# Altium schematic symbol library Schlib1.SchLib: 114 symbols
Pins are listed as number, name and electrical type; pins without a type are passive.

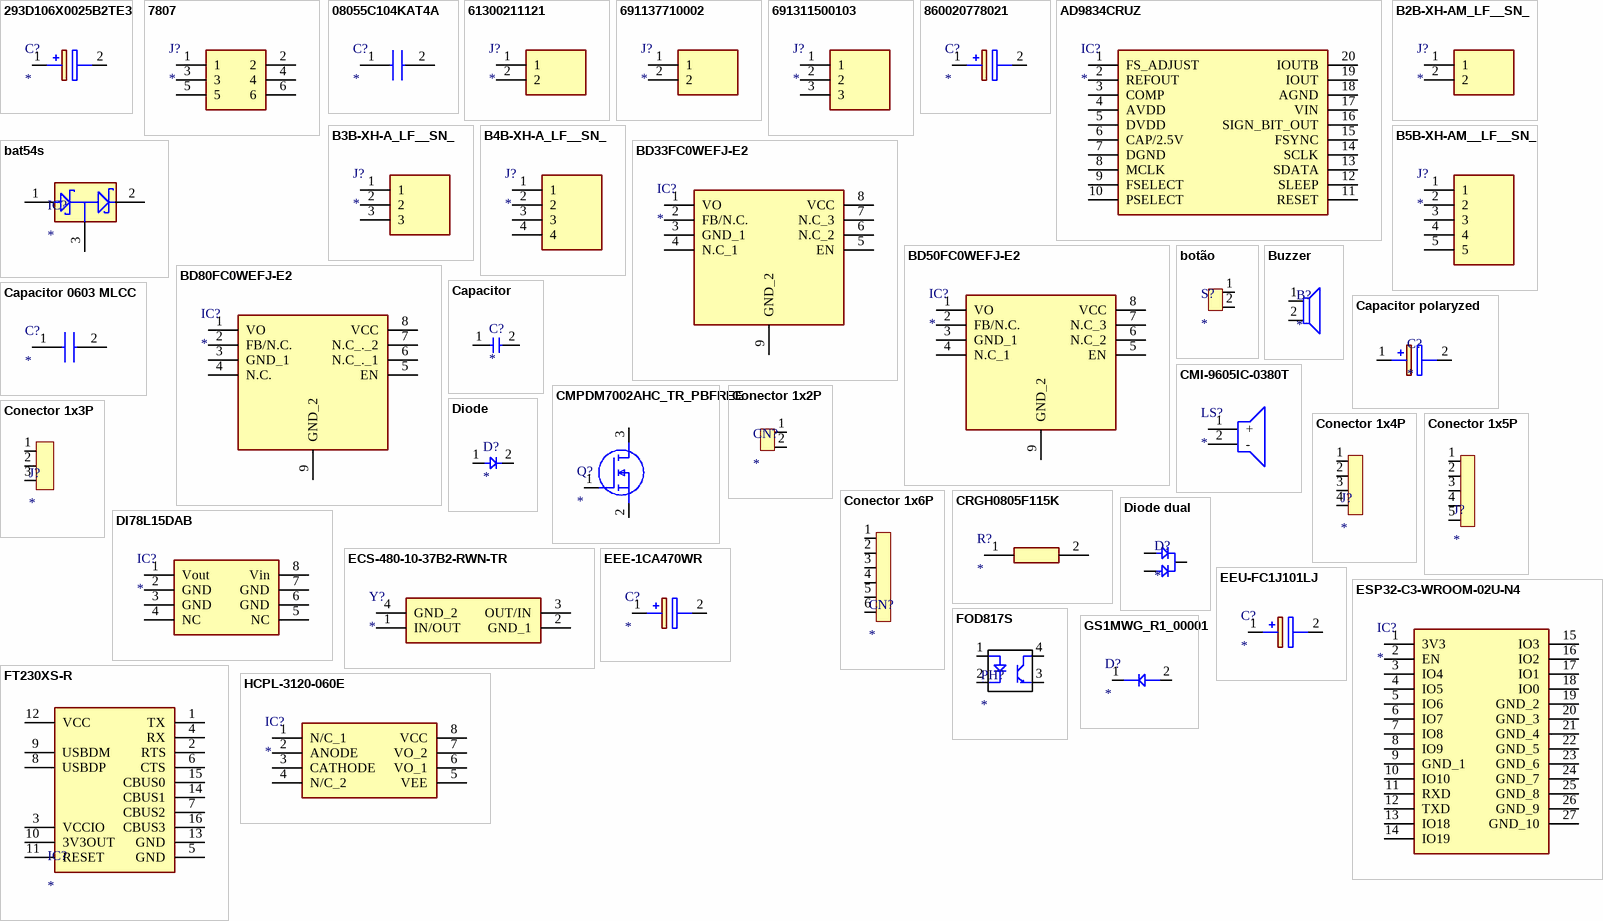
[diagram p0: symbols 293D106X0025B2TE3 to HCPL-3120-060E]

## 293D106X0025B2TE3
designator C?
Capacitor Polarised; Manufacturer_Name: Vishay; Manufacturer_Part_Number: 293D106X0025B2TE3; Datasheet Link: http://www.vishay.com/docs/40002/293d.pdf; Height: 2.1mm; Mouser Part Number: 74-293D106X0025B2TE3; Mouser Price/Stock: https://www.mouser.co.uk/ProductDetail/Vishay-Sprague/293D106X0025B2TE3?qs=eXAnOQRjAvn8wr9AJig%2FdQ%3D%3D
footprint CAPPM3528X210N
pins: 1 +, 2 -

## 7807
designator J?
Connector; Manufacturer_Name: Keystone Electronics; Manufacturer_Part_Number: 7807; Datasheet Link: http://www.keyelco.com/product-pdf.cfm?p=1119; Height: 11.76mm; Mouser Part Number: 534-7807; Mouser Price/Stock: https://www.mouser.co.uk/ProductDetail/Keystone-Electronics/7807?qs=%2F%252BPMR94VuMaEJokheHBVWg%3D%3D; Arrow Part Number: 7807; Arrow Price/Stock: https://www.arrow.com/en/products/7807/keystone-electronics?region=europe
footprint 7807
pins: 1, 2, 3, 4, 5, 6

## 08055C104KAT4A
designator C?
Capacitor; Manufacturer_Name: AVX; Manufacturer_Part_Number: 08055C104KAT4A; Datasheet Link: https://datasheets.avx.com/X7RDielectric.pdf; Height: 0.94mm; Mouser Part Number: 581-08055C104KAT4A; Mouser Price/Stock: https://www.mouser.co.uk/ProductDetail/AVX/08055C104KAT4A?qs=2ujN4bDBNE8aFT7CFyBStg%3D%3D; Arrow Part Number: 08055C104KAT4A; Arrow Price/Stock: https://www.arrow.com/en/products/08055c104kat4a/avx
footprint CAPC2012X94N
pins: 1, 2

## 61300211121
designator J?
Connector; Manufacturer_Name: Wurth Elektronik; Manufacturer_Part_Number: 61300211121; Datasheet Link: https://componentsearchengine.com/Datasheets/2/61300211121.pdf; Height: 8.54mm; Mouser Part Number: 710-61300211121; Mouser Price/Stock: https://www.mouser.co.uk/ProductDetail/Wurth-Elektronik/61300211121?qs=t4813l51qx%252B1A5GYDQxPlw%3D%3D
footprint HDRV2W110P0X254_1X2_508X254X854P
pins: 1, 2

## 691137710002
designator J?
Connector; Manufacturer_Name: Wurth Elektronik; Manufacturer_Part_Number: 691137710002; Datasheet Link: https://katalog.we-online.com/em/datasheet/691137710002.pdf; Height: 11.6mm; Mouser Part Number: 710-691137710002; Mouser Price/Stock: https://www.mouser.co.uk/ProductDetail/Wurth-Elektronik/691137710002?qs=lBTPRtX1sU9LnHBbviNKGA%3D%3D
footprint SHDR2W70P0X500_1X2_1000X750X1160P
pins: 1, 2

## 691311500103
designator J?
Connector; Manufacturer_Name: Wurth Elektronik; Manufacturer_Part_Number: 691311500103; Datasheet Link: https://www.we-online.de/katalog/datasheet/6913115001xx.pdf; Height: 12mm; Mouser Part Number: 710-691311500103; Mouser Price/Stock: https://www.mouser.co.uk/ProductDetail/Wurth-Elektronik/691311500103?qs=2kOmHSv6VfTr95JPv5RlIw%3D%3D
footprint SHDR3W100P0X508_1X3_1724X850X1200P
pins: 1, 2, 3

## 860020778021
designator C?
Capacitor Polarised; Manufacturer_Name: Wurth Elektronik; Manufacturer_Part_Number: 860020778021; Datasheet Link: https://katalog.we-online.de/pbs/datasheet/860020778021.pdf; Height: 21.5mm; Mouser Part Number: 710-860020778021; Mouser Price/Stock: https://www.mouser.co.uk/ProductDetail/Wurth-Elektronik/860020778021?qs=0KOYDY2FL2%2FF9nckk0oqvw%3D%3D
footprint CAPPRD500W62D1300H2150
pins: 1 +, 2 -

## AD9834CRUZ
designator IC?
Integrated Circuit; Manufacturer_Name: Analog Devices; Manufacturer_Part_Number: AD9834CRUZ; Datasheet Link: https://datasheet.datasheetarchive.com/originals/distributors/SFDatasheet-4/sf-00085714.pdf; Height: 1.2mm; Mouser Part Number: 584-AD9834CRUZ; Mouser Price/Stock: https://www.mouser.co.uk/ProductDetail/Analog-Devices/AD9834CRUZ?qs=BpaRKvA4VqFRutKPwxOCnQ%3D%3D; Arrow Part Number: AD9834CRUZ; Arrow Price/Stock: https://www.arrow.com/en/products/ad9834cruz/analog-devices?region=nac
footprint SOP65P640X120-20N
pins: 1 FS_ADJUST, 2 REFOUT, 3 COMP, 4 AVDD, 5 DVDD, 6 CAP/2.5V, 7 DGND, 8 MCLK, 9 FSELECT, 10 PSELECT, 11 RESET, 12 SLEEP, 13 SDATA, 14 SCLK, 15 FSYNC, 16 SIGN_BIT_OUT, 17 VIN, 18 AGND, 19 IOUT, 20 IOUTB

## B2B-XH-AM_LF__SN_
designator J?
Connector; Manufacturer_Name: JST (JAPAN SOLDERLESS TERMINALS); Manufacturer_Part_Number: B2B-XH-AM(LF)(SN); Datasheet Link: https://www.jst-mfg.com/product/pdf/eng/eXH.pdf; Height: 7mm; Arrow Part Number: B2B-XH-AM(LF)(SN); Arrow Price/Stock: https://www.arrow.com/en/products/b2b-xh-am-lf-sn/jst-manufacturing?region=europe
footprint B2BXHAMLFSN
pins: 1, 2

## B3B-XH-A_LF__SN_
designator J?
Connector; Manufacturer_Name: JST (JAPAN SOLDERLESS TERMINALS); Manufacturer_Part_Number: B3B-XH-A(LF)(SN); Datasheet Link: https://datasheet.lcsc.com/szlcsc/1812131720_JST-Sales-America-B3B-XH-A-LF-SN_C144394.pdf; Height: 7mm; Arrow Part Number: B3B-XH-A(LF)(SN); Arrow Price/Stock: https://www.arrow.com/en/products/b3b-xh-a-lf-sn/jst-manufacturing?region=europe
footprint B3BXHALFSN
pins: 1, 2, 3

## B4B-XH-A_LF__SN_
designator J?
Connector; Manufacturer_Name: JST (JAPAN SOLDERLESS TERMINALS); Manufacturer_Part_Number: B4B-XH-A(LF)(SN); Datasheet Link: https://datasheet.lcsc.com/szlcsc/JST-Sales-America-B4B-XH-A-LF-SN_C144395.pdf; Height: 7mm; Arrow Part Number: B4B-XH-A(LF)(SN); Arrow Price/Stock: https://www.arrow.com/en/products/b4b-xh-a-lf-sn/jst-manufacturing?region=europe
footprint B4BXHALFSN
pins: 1, 2, 3, 4

## B5B-XH-AM__LF__SN_
designator J?
Connector; Manufacturer_Name: JST (JAPAN SOLDERLESS TERMINALS); Manufacturer_Part_Number: B5B-XH-AM (LF)(SN); Datasheet Link: http://uk.rs-online.com/web/p/products/1755317; Height: 7mm; Arrow Part Number: B5B-XH-AM (LF)(SN); Arrow Price/Stock: https://www.arrow.com/en/products/b5b-xh-am-lf-sn/jst-manufacturing
footprint B5BXHAMLFSN
pins: 1, 2, 3, 4, 5

## bat54s
designator IC?
pins: 1 IN, 2 OUT, 3 COM

## BD33FC0WEFJ-E2
designator IC?
Integrated Circuit; Manufacturer_Name: ROHM Semiconductor; Manufacturer_Part_Number: BD33FC0WEFJ-E2; Datasheet Link: http://rohmfs.rohm.com/en/products/databook/datasheet/ic/power/linear_regulator/bdxxfc0wefj-e.pdf; Height: 1mm; Mouser Part Number: 755-BD33FC0WEFJ-E2; Mouser Price/Stock: https://www.mouser.co.uk/ProductDetail/ROHM-Semiconductor/BD33FC0WEFJ-E2?qs=%2FKR40Cd6GUpfCM5JJYP%2F6g%3D%3D
footprint SOIC127P600X100-9N
pins: 1 VO, 2 FB/N.C., 3 GND_1, 4 N.C_1, 5 EN, 6 N.C_2, 7 N.C_3, 8 VCC, 9 GND_2

## BD50FC0WEFJ-E2
designator IC?
Integrated Circuit; Manufacturer_Name: ROHM Semiconductor; Manufacturer_Part_Number: BD50FC0WEFJ-E2; Datasheet Link: http://rohmfs.rohm.com/en/products/databook/datasheet/ic/power/linear_regulator/bdxxfc0wefj-e.pdf; Height: 1mm; Mouser Part Number: 755-BD50FC0WEFJ-E2; Mouser Price/Stock: https://www.mouser.co.uk/ProductDetail/ROHM-Semiconductor/BD50FC0WEFJ-E2?qs=%2FKR40Cd6GUqUv8f5pF98zA%3D%3D
footprint SOIC127P600X100-9N
pins: 1 VO, 2 FB/N.C., 3 GND_1, 4 N.C_1, 5 EN, 6 N.C_2, 7 N.C_3, 8 VCC, 9 GND_2

## BD80FC0WEFJ-E2
designator IC?
Integrated Circuit; Manufacturer_Name: ROHM Semiconductor; Manufacturer_Part_Number: BD80FC0WEFJ-E2; Datasheet Link: https://www.mouser.tw/datasheet/2/348/bdxxfc0wefj_e-1874088.pdf; Height: 1mm; Mouser Part Number: 755-BD80FC0WEFJ-E2; Mouser Price/Stock: https://www.mouser.co.uk/ProductDetail/ROHM-Semiconductor/BD80FC0WEFJ-E2?qs=WHeKGGBt0W%252BL2QkEjNx0%2FA%3D%3D
footprint SOIC127P600X100-9N
pins: 1 VO, 2 FB/N.C., 3 GND_1, 4 N.C., 5 EN, 6 N.C_._1, 7 N.C_._2, 8 VCC, 9 GND_2

## botão
designator S?
pins: 1, 2

## Buzzer
designator B?
footprint Buzzer
pins: 1, 2

## Capacitor
designator C?
pins: 1, 2

## Capacitor 0603 MLCC
designator C?
Capacitor; Manufacturer_Name: TDK; Manufacturer_Part_Number: CGA3E2X5R1H104K080AA; Datasheet Link: http://docs-europe.electrocomponents.com/webdocs/14e9/0900766b814e9125.pdf; Height: 0.9mm; Mouser Part Number: 810-CGA3E2X5R1H104KA; Mouser Price/Stock: https://www.mouser.com/Search/Refine.aspx?Keyword=810-CGA3E2X5R1H104KA
footprint CAPC1608X90N
pins: 1, 2

## Capacitor polaryzed
designator C?
pins: 1 +, 2 -

## CMI-9605IC-0380T
designator LS?
Loudspeaker or Buzzer; Manufacturer_Name: CUI Devices; Manufacturer_Part_Number: CMI-9605IC-0380T; Datasheet Link: https://www.cuidevices.com/product/resource/cmi-9605ic-0380t.pdf; Height: 5.5mm; Mouser Part Number: 490-CMI-9605IC-0380T; Mouser Price/Stock: https://www.mouser.co.uk/ProductDetail/CUI-Devices/CMI-9605IC-0380T?qs=OlC7AqGiEDlW5tyDYvaejQ%3D%3D; Arrow Part Number: CMI-9605IC-0380T; Arrow Price/Stock: https://www.arrow.com/en/products/cmi-9605ic-0380t/cui-devices?region=nac
footprint CMI9605IC0380T
pins: 1 +, 2 -

## CMPDM7002AHC_TR_PBFREE
designator Q?
MOSFET (N-Channel); Manufacturer_Name: Central Semiconductor; Manufacturer_Part_Number: CMPDM7002AHC TR PBFREE; Datasheet Link: https://my.centralsemi.com/get_document.php?cmp=1&mergetype=pd&mergepath=pd&pdf_id=CMPDM7002AHC.PDF; Height: 1.09mm; Mouser Part Number: 610-CMPDM7002AHC; Mouser Price/Stock: https://www.mouser.co.uk/ProductDetail/Central-Semiconductor/CMPDM7002AHC-TR-PBFREE?qs=u16ybLDytRZerPZ%252Bo3fc2A%3D%3D; Arrow Part Number: CMPDM7002AHC TR PBFREE; Arrow Price/Stock: https://www.arrow.com/en/products/cmpdm7002ahc-tr-pbfree/central-semiconductor?region=nac
footprint SOT95P230X109-3N
pins: 1 G, 2 S, 3 D

## Conector 1x2P
designator CN?
pins: 1, 2

## Conector 1x3P
designator J?
pins: 1, 2, 3

## Conector 1x4P
designator J?
pins: 1, 2, 3, 4

## Conector 1x5P
designator J?
pins: 1, 2, 3, 4, 5

## Conector 1x6P
designator CN?
pins: 1, 2, 3, 4, 5, 6

## CRGH0805F115K
designator R?
Resistor; Manufacturer_Name: TE Connectivity; Manufacturer_Part_Number: CRGH0805F115K; Datasheet Link: http://docs-europe.electrocomponents.com/webdocs/12d7/0900766b812d7379.pdf; Height: 0.65mm; Mouser Part Number: 279-CRGH0805F115K; Mouser Price/Stock: https://www.mouser.co.uk/ProductDetail/TE-Connectivity-Neohm/CRGH0805F115K?qs=s1WWODT2SXVHSKjgfH6jew%3D%3D
footprint RESC2013X65N
pins: 1, 2

## DI78L15DAB
designator IC?
Integrated Circuit; Manufacturer_Name: STMicroelectronics; Manufacturer_Part_Number: L99VR01STR; Datasheet Link: https://www.st.com/resource/en/datasheet/l99vr01.pdf; Height: 1.75mm; Mouser Part Number: 511-L99VR01STR; Mouser Price/Stock: https://www.mouser.co.uk/ProductDetail/STMicroelectronics/L99VR01STR?qs=TuK3vfAjtkUWJcN2h24C9A%3D%3D
footprint SOIC127P600X175-8N
pins: 1 Vout, 2 GND, 3 GND, 4 NC, 5 NC, 6 GND, 7 GND, 8 Vin

## Diode
designator D?
pins: 1 2, 2 3

## Diode dual
designator D?
pins: 1, 2, 3

## ECS-480-10-37B2-RWN-TR
designator Y?
Crystal or Oscillator; Manufacturer_Name: ECS; Manufacturer_Part_Number: ECS-480-10-37B2-RWN-TR; Datasheet Link: https://www.mouser.de/datasheet/2/122/ECX_1637B2-2400564.pdf; Height: 0.5mm; Mouser Part Number: 520-480-10-37B2RWNTR; Mouser Price/Stock: https://www.mouser.co.uk/ProductDetail/ECS/ECS-480-10-37B2-RWN-TR?qs=aP1CjGhiNiFim70mnIIhdA%3D%3D
footprint ECS4801037B2RWNTR
pins: 1 IN/OUT, 2 GND_1, 3 OUT/IN, 4 GND_2

## EEE-1CA470WR
designator C?
Capacitor Polarised; Manufacturer_Name: Panasonic; Manufacturer_Part_Number: EEE-1CA470WR; Datasheet Link: http://industrial.panasonic.com/cdbs/www-data/pdf/RDE0000/ABA0000C1145.pdf; Height: 6.5mm; Mouser Part Number: 667-EEE-1CA470WR; Mouser Price/Stock: https://www.mouser.co.uk/ProductDetail/Panasonic/EEE-1CA470WR?qs=ANJC8C65Mw6cwpFtra%2FyBA%3D%3D; Arrow Part Number: EEE-1CA470WR; Arrow Price/Stock: https://www.arrow.com/en/products/eee-1ca470wr/panasonic
footprint EEE0GA101SR
pins: 1 +, 2 -

## EEU-FC1J101LJ
designator C?
Capacitor Polarised; Manufacturer_Name: Panasonic; Manufacturer_Part_Number: EEU-FC1J101LJ; Datasheet Link: http://industrial.panasonic.com/www-cgi/jvcr13pz.cgi?E+PZ+3+ABA0022+EEUFC1J101LJ+7+WW; Height: 16mm; Mouser Part Number: 667-EEU-FC1J101LJ; Mouser Price/Stock: https://www.mouser.co.uk/ProductDetail/Panasonic/EEU-FC1J101LJ?qs=MtOUKumLmnaKQua0MDjYtQ%3D%3D
footprint CAPPRD350W65D800H1600
pins: 1 +, 2 -

## ESP32-C3-WROOM-02U-N4
designator IC?
Integrated Circuit; Manufacturer_Name: Espressif Systems; Manufacturer_Part_Number: ESP32-C3-WROOM-02U-N4; Datasheet Link: https://www.espressif.com/sites/default/files/documentation/esp32-c3-wroom-02_datasheet_en.pdf; Height: 3.35mm; Mouser Part Number: 356-ESP32C3WROM02UN4; Mouser Price/Stock: https://www.mouser.co.uk/ProductDetail/Espressif-Systems/ESP32-C3-WROOM-02U-N4?qs=pBJMDPsKWf2Ces2aXBSNjQ%3D%3D
footprint ESP32C3WROOM02UN4
pins: 1 3V3, 2 EN, 3 IO4, 4 IO5, 5 IO6, 6 IO7, 7 IO8, 8 IO9, 9 GND_1, 10 IO10, 11 RXD, 12 TXD, 13 IO18, 14 IO19, 15 IO3, 16 IO2, 17 IO1, 18 IO0, 19 GND_2, 20 GND_3, 21 GND_4, 22 GND_5, 23 GND_6, 24 GND_7, 25 GND_8, 26 GND_9, 27 GND_10

## FOD817S
designator PH?
PhotoCoupler
footprint SMD-4
pins: 1, 2, 3, 4

## FT230XS-R
designator IC?
pins: 1 TX, 2 RTS, 3 VCCIO, 4 RX, 5 GND, 6 CTS, 7 CBUS2, 8 USBDP, 9 USBDM, 10 3V3OUT, 11 RESET, 12 VCC, 13 GND, 14 CBUS1, 15 CBUS0, 16 CBUS3

## GS1MWG_R1_00001
designator D?
Diode; Manufacturer_Name: PANJIT; Manufacturer_Part_Number: GS1MWG_R1_00001; Datasheet Link: https://www.mouser.de/datasheet/2/1057/GS1AWG_SERIES-1870089.pdf; Height: 2.44mm; Mouser Part Number: 241-GS1MWG_R1_00001; Mouser Price/Stock: https://www.mouser.co.uk/ProductDetail/Panjit/GS1MWG_R1_00001?qs=sPbYRqrBIVnwJuJSHLKHJQ%3D%3D
footprint GS1MWG_R1_00001
pins: 1 K, 2 A

## HCPL-3120-060E
designator IC?
Integrated Circuit; Manufacturer_Name: Avago Technologies; Manufacturer_Part_Number: HCPL-3120-060E; Datasheet Link: https://www.broadcom.com/products/optocouplers/industrial-plastic/isolated-gate-drive-optocouplers/gate-drives/hcpl-3120; Height: 4.7mm; Mouser Part Number: 630-HCPL-3120-060E; Mouser Price/Stock: https://www.mouser.co.uk/ProductDetail/Broadcom-Avago/HCPL-3120-060E?qs=s%252BgfxR24RQ6Hbv8y%252BiVbRA%3D%3D
footprint DIP762W65P254L965H470Q8N
pins: 1 N/C_1, 2 ANODE, 3 CATHODE, 4 N/C_2, 5 VEE, 6 VO_1, 7 VO_2, 8 VCC

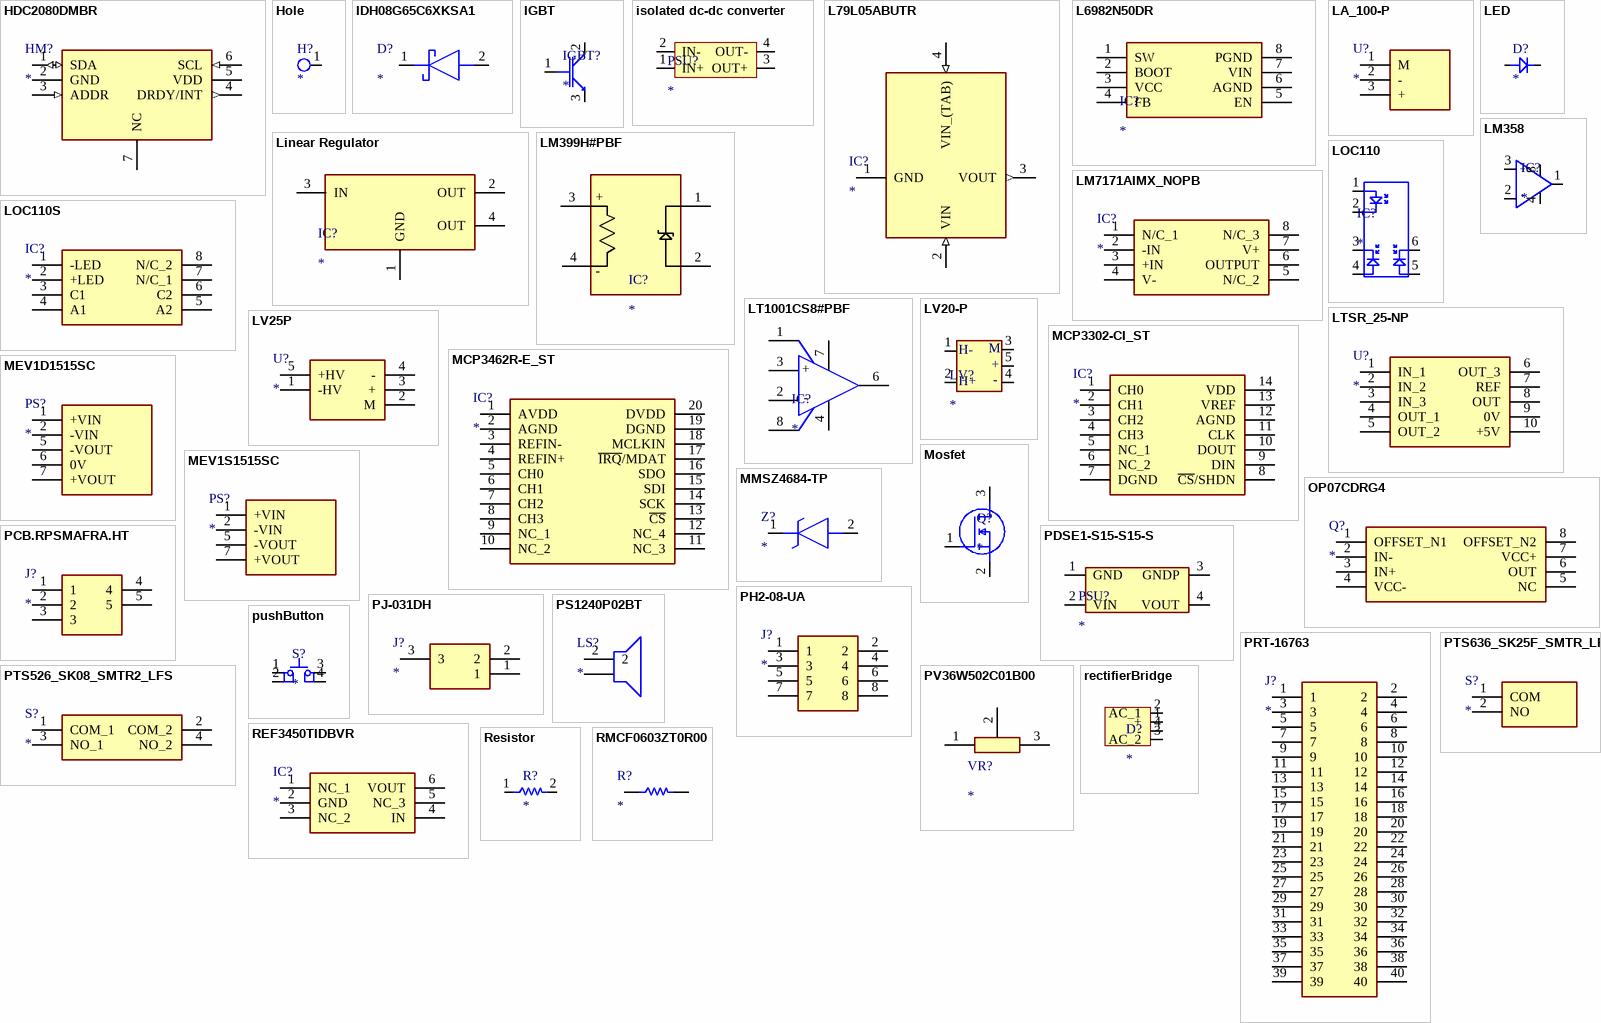
[diagram p1: symbols HDC2080DMBR to RMCF0603ZT0R00]

## HDC2080DMBR
designator HM?
Hygrometer; Manufacturer_Name: Texas Instruments; Manufacturer_Part_Number: HDC2080DMBR; Datasheet Link: https://datasheet.datasheetarchive.com/originals/distributors/DKDS41/DSANUWW0029356.pdf; Height: 0.8mm; Mouser Part Number: 595-HDC2080DMBR; Mouser Price/Stock: https://www.mouser.co.uk/ProductDetail/Texas-Instruments/HDC2080DMBR?qs=MLItCLRbWsxk2IEH4uo7CA%3D%3D; Arrow Part Number: HDC2080DMBR; Arrow Price/Stock: https://www.arrow.com/en/products/hdc2080dmbr/texas-instruments?region=nac
footprint SON100P300X300X80-7N-D
pins: 1 SDA (io), 2 GND (power), 3 ADDR (in), 4 DRDY/INT (out), 5 VDD (power), 6 SCL (in), 7 NC

## Hole
designator H?
pins: 1 5

## IDH08G65C6XKSA1
designator D?
Schottky Diode; Manufacturer_Name: Infineon; Manufacturer_Part_Number: IDH08G65C6XKSA1; Datasheet Link: http://www.farnell.com/datasheets/2343075.pdf; Height: 4.5mm; Mouser Part Number: 726-IDH08G65C6XKSA1; Mouser Price/Stock: https://www.mouser.co.uk/ProductDetail/Infineon-Technologies/IDH08G65C6XKSA1?qs=HXFqYaX1Q2w%2FNYfxgerhzg%3D%3D; Arrow Part Number: IDH08G65C6XKSA1; Arrow Price/Stock: https://www.arrow.com/en/products/idh08g65c6xksa1/infineon-technologies-ag
footprint TO508P450X1000X2005-2P
pins: 1 K, 2 A

## IGBT
designator IGBT?
pins: 1, 2, 3

## isolated dc-dc converter
designator PSU?
pins: 1 IN+, 2 IN-, 3 OUT+, 4 OUT-

## L79L05ABUTR
designator IC?
Integrated Circuit; Manufacturer_Name: STMicroelectronics; Manufacturer_Part_Number: L79L05ABUTR; Datasheet Link: http://www.st.com/web/en/resource/technical/document/datasheet/CD00000539.pdf; Mouser Part Number: 511-L79L05ABU-TR; Mouser Price/Stock: https://www.mouser.co.uk/ProductDetail/STMicroelectronics/L79L05ABUTR?qs=XYwxl0q5LLRDje%252BMXBdxPA%3D%3D; Arrow Part Number: L79L05ABUTR; Arrow Price/Stock: https://www.arrow.com/en/products/l79l05abutr/stmicroelectronics?region=nac
footprint ST-SOT-89
pins: 1 GND (power), 2 VIN (in), 3 VOUT (out), 4 VIN_(TAB) (in)

## L6982N50DR
designator IC?
pins: 1 SW, 2 BOOT, 3 VCC, 4 FB, 5 EN, 6 AGND, 7 VIN, 8 PGND

## LA_100-P
designator U?
Undefined or Miscellaneous; Manufacturer_Name: LEM; Manufacturer_Part_Number: LA 100-P; Datasheet Link: https://datasheet.datasheetarchive.com/originals/distributors/Datasheets-16/DSA-314838.pdf
footprint LA-100-P
pins: 1 M, 2 -, 3 +

## LED
designator D?
pins: 1 11, 2 12

## Linear Regulator
designator IC?
pins: 1 GND, 2 OUT, 3 IN, 4 OUT

## LM358
designator IC?
pins: 1, 2, 3, 4, 8
text: +; -

## LM399H#PBF
designator IC?
Integrated Circuit; Manufacturer_Name: Analog Devices; Manufacturer_Part_Number: LM399H#PBF; Datasheet Link: http://www.linear.com/docs/3317; Mouser Part Number: 584-LM399H#PBF; Mouser Price/Stock: https://www.mouser.co.uk/ProductDetail/Analog-Devices/LM399HPBF?qs=ytflclh7QUUBgFHZ1qNrrw%3D%3D; Arrow Part Number: LM399H#PBF; Arrow Price/Stock: https://www.arrow.com/en/products/lm399hpbf/analog-devices?region=nac
footprint TO-46_4-PIN_1
pins: 1 +_1, 2 -_1, 3 +_2, 4 -_2
text: +; -

## LM7171AIMX_NOPB
designator IC?
Integrated Circuit; Manufacturer_Name: Texas Instruments; Manufacturer_Part_Number: LM7171AIMX/NOPB; Datasheet Link: http://www.ti.com/lit/gpn/LM7171; Height: 1.75mm; Mouser Part Number: 926-LM7171AIMX/NOPB; Mouser Price/Stock: https://www.mouser.co.uk/ProductDetail/Texas-Instruments/LM7171AIMX-NOPB?qs=QbsRYf82W3EidM3k7G2htQ%3D%3D; Arrow Part Number: LM7171AIMX/NOPB; Arrow Price/Stock: https://www.arrow.com/en/products/lm7171aimxnopb/texas-instruments?region=nac
footprint SOIC127P600X175-8N
pins: 1 N/C_1, 2 -IN, 3 +IN, 4 V-, 5 N/C_2, 6 OUTPUT, 7 V+, 8 N/C_3

## LOC110
designator IC?
pins: 1, 2, 3, 4, 5, 6

## LOC110S
designator IC?
Integrated Circuit; Manufacturer_Name: LITTELFUSE; Manufacturer_Part_Number: LOC110S; Datasheet Link: http://www.ixysic.com/home/pdfs.nsf/www/LOC110.pdf/$file/LOC110.pdf; Height: 4.572mm; Mouser Part Number: 849-LOC110S; Mouser Price/Stock: https://www.mouser.co.uk/ProductDetail/IXYS-Integrated-Circuits/LOC110S?qs=lQlU%252BwB40gtiGjUbEP1UzQ%3D%3D; Arrow Part Number: LOC110S; Arrow Price/Stock: https://www.arrow.com/en/products/loc110s/littelfuse?region=europe
footprint SOP254P952X457-8N
pins: 1 -LED, 2 +LED, 3 C1, 4 A1, 5 A2, 6 C2, 7 N/C_1, 8 N/C_2

## LT1001CS8#PBF
designator IC?
Integrated Circuit; Manufacturer_Name: Analog Devices; Manufacturer_Part_Number: LT1001CS8#PBF; Datasheet Link: http://www.linear.com/docs/1672; Height: 1.752mm; Mouser Part Number: 584-LT1001CS8#PBF; Mouser Price/Stock: https://www.mouser.co.uk/ProductDetail/Analog-Devices/LT1001CS8PBF?qs=ytflclh7QUXPrXuaZMy1cA%3D%3D; Arrow Part Number: LT1001CS8#PBF; Arrow Price/Stock: https://www.arrow.com/en/products/lt1001cs8pbf/analog-devices?region=nac
footprint SOIC127P599X175-8N
pins: 1 VOS_TRIM_1, 2 -, 3 +, 4 V-, 6 OUT, 7 V+, 8 VOS_TRIM_2

## LTSR_25-NP
designator U?
Undefined or Miscellaneous; Manufacturer_Name: LEM; Manufacturer_Part_Number: LTSR 25-NP; Datasheet Link: https://datasheet.datasheetarchive.com/originals/distributors/Datasheets-16/DSA-314824.pdf
footprint LTSR25-NP
pins: 1 IN_1, 2 IN_2, 3 IN_3, 4 OUT_1, 5 OUT_2, 6 OUT_3, 7 REF, 8 OUT, 9 0V, 10 +5V

## LV20-P
designator LV?
pins: 1, 2, 3, 4, 5
text: M; H-; +; H+; -

## LV25P
designator U?
Undefined or Miscellaneous; Manufacturer_Name: LEM; Manufacturer_Part_Number: LV25P
footprint LV-25-P
pins: 1 -HV, 2 M, 3 +, 4 -, 5 +HV

## MCP3302-CI_ST
designator IC?
Integrated Circuit; Manufacturer_Name: Microchip; Manufacturer_Part_Number: MCP3302-CI/ST; Datasheet Link: https://datasheet.datasheetarchive.com/originals/dk/DKDS-14/279089.pdf; Height: 1.2mm; Mouser Part Number: 579-MCP3302-CI/ST; Mouser Price/Stock: https://www.mouser.co.uk/ProductDetail/Microchip-Technology/MCP3302-CI-ST?qs=e4wS3D8CKP6bv8PHxjfZrA%3D%3D; Arrow Part Number: MCP3302-CI/ST; Arrow Price/Stock: https://www.arrow.com/en/products/mcp3302-cist/microchip-technology?region=nac
footprint SOP65P640X120-14N
pins: 1 CH0, 2 CH1, 3 CH2, 4 CH3, 5 NC_1, 6 NC_2, 7 DGND, 8 ~{CS}/SHDN, 9 DIN, 10 DOUT, 11 CLK, 12 AGND, 13 VREF, 14 VDD

## MCP3462R-E_ST
designator IC?
Integrated Circuit; Manufacturer_Name: Microchip; Manufacturer_Part_Number: MCP3462R-E/ST; Datasheet Link: https://ww1.microchip.com/downloads/aemDocuments/documents/APID/ProductDocuments/DataSheets/MCP3461-2-4R-Family-Data-Sheet-DS20006404C.pdf; Height: 1.2mm; Mouser Part Number: 579-MCP3462R-E/ST; Mouser Price/Stock: https://www.mouser.co.uk/ProductDetail/Microchip-Technology-Atmel/MCP3462R-E-ST?qs=W%2FMpXkg%252BdQ5OVeuGIwXtOA%3D%3D
footprint SOP65P640X120-20N
pins: 1 AVDD, 2 AGND, 3 REFIN-, 4 REFIN+, 5 CH0, 6 CH1, 7 CH2, 8 CH3, 9 NC_1, 10 NC_2, 11 NC_3, 12 NC_4, 13 ~{CS}, 14 SCK, 15 SDI, 16 SDO, 17 ~{IRQ}/MDAT, 18 MCLKIN, 19 DGND, 20 DVDD

## MEV1D1515SC
designator PS?
Power Supply; Manufacturer_Name: Murata Electronics; Manufacturer_Part_Number: MEV1D1515SC; Datasheet Link: https://www.murata.com/products/productdata/8807029899294/kdc-mev.pdf?1625801416000; Height: 10.25mm; Mouser Part Number: 580-MEV1D1515SC; Mouser Price/Stock: http://www.mouser.com/Search/ProductDetail.aspx?qs=ejU9AuTfm8G1wJ5My72xyw%3d%3d; Arrow Part Number: MEV1D1515SC; Arrow Price/Stock: https://www.arrow.com/en/products/mev1d1515sc/murata-power-solutions
footprint MEV1D1515SC
pins: 1 +VIN, 2 -VIN, 5 -VOUT, 6 0V, 7 +VOUT

## MEV1S1515SC
designator PS?
Power Supply; Manufacturer_Name: Murata Electronics; Manufacturer_Part_Number: MEV1S1515SC; Datasheet Link: https://power.murata.com/data/power/ncl/kdc_mev.pdf; Height: 10.15mm; Mouser Part Number: 580-MEV1S1515SC; Mouser Price/Stock: https://www.mouser.co.uk/ProductDetail/Murata-Power-Solutions/MEV1S1515SC?qs=ElE%2F8fqQeYgmd421%2FET8wA%3D%3D; Arrow Part Number: MEV1S1515SC; Arrow Price/Stock: https://www.arrow.com/en/products/mev1s1515sc/murata-power-solutions?region=nac
footprint MEV1S1515SC
pins: 1 +VIN, 2 -VIN, 5 -VOUT, 7 +VOUT

## MMSZ4684-TP
designator Z?
Zener Diode; Manufacturer_Name: MCC; Manufacturer_Part_Number: MMSZ4684-TP; Datasheet Link: https://www.mccsemi.com/pdf/Products/MMSZ4678-MMSZ4716(SOD-123).pdf; Height: 1.35mm; Mouser Part Number: 833-MMSZ4684-TP; Mouser Price/Stock: https://www.mouser.co.uk/ProductDetail/Micro-Commercial-Components-MCC/MMSZ4684-TP?qs=O1HRStiETCg3wRLIZGTHzA%3D%3D; Arrow Part Number: MMSZ4684-TP; Arrow Price/Stock: https://www.arrow.com/en/products/mmsz4684-tp/micro-commercial-components?region=asia
footprint SOD3716X135N
pins: 1 K, 2 A

## Mosfet
designator Q?
pins: 1 G, 2 S, 3 D

## OP07CDRG4
designator Q?
Transistor; Manufacturer_Name: Texas Instruments; Manufacturer_Part_Number: OP07CDRG4; Datasheet Link: http://www.ti.com/general/docs/suppproductinfo.tsp?distId=26&gotoUrl=http%3A%2F%2Fwww.ti.com%2Flit%2Fgpn%2Fop07c; Height: 1.75mm; Mouser Part Number: 595-OP07CDRG4; Mouser Price/Stock: https://www.mouser.co.uk/ProductDetail/Texas-Instruments/OP07CDRG4?qs=7nS3%252BbEUL6sb7OXG9og%252BQw%3D%3D; Arrow Part Number: OP07CDRG4; Arrow Price/Stock: https://www.arrow.com/en/products/op07cdrg4/texas-instruments?region=nac
footprint SOIC127P600X175-8N
pins: 1 OFFSET_N1, 2 IN-, 3 IN+, 4 VCC-, 5 NC, 6 OUT, 7 VCC+, 8 OFFSET_N2

## PCB.RPSMAFRA.HT
designator J?
Connector; Manufacturer_Name: Taoglas; Manufacturer_Part_Number: PCB.RPSMAFRA.HT; Datasheet Link: https://datasheet.datasheetarchive.com/originals/distributors/DKDS-20/390461.pdf; Height: 7.4mm; Mouser Part Number: 960-PCB.RPSMAFRA.HT; Mouser Price/Stock: https://www.mouser.co.uk/ProductDetail/Taoglas/PCB.RPSMAFRA.HT?qs=RuW%2Fu%252BNMQmvVc2WiXpnkVw%3D%3D; Arrow Part Number: PCB.RPSMAFRA.HT; Arrow Price/Stock: https://www.arrow.com/en/products/pcb.rpsmafra.ht/taoglas?region=nac
footprint PCBRPSMAFRAHT
pins: 1, 2, 3, 4, 5

## PDSE1-S15-S15-S
designator PSU?
pins: 1 GND, 2 VIN, 3 GNDP, 4 VOUT

## PH2-08-UA
designator J?
Connector; Manufacturer_Name: Adam Tech; Manufacturer_Part_Number: PH2-08-UA; Datasheet Link: https://datasheet.datasheetarchive.com/originals/distributors/Datasheets_SAMA/c63e3fe101e7b6e3957e7ad4a1a98367.pdf; Height: 9.516mm; Arrow Part Number: PH2-08-UA; Arrow Price/Stock: https://www.arrow.com/en/products/ph2-08-ua/adam-tech?region=nac
footprint HDRV8W64P254_2X4_1016X500X952P
pins: 1, 2, 3, 4, 5, 6, 7, 8

## PJ-031DH
designator J?
Connector; Manufacturer_Name: CUI Devices; Manufacturer_Part_Number: PJ-031DH; Datasheet Link: https://www.cui.com/product/resource/pj-031dh.pdf; Height: 7mm; Mouser Part Number: 490-PJ-031DH; Mouser Price/Stock: https://www.mouser.co.uk/ProductDetail/CUI-Devices/PJ-031DH?qs=WyjlAZoYn52nDKNxzxC0%2FA%3D%3D; Arrow Part Number: PJ-031DH; Arrow Price/Stock: https://www.arrow.com/en/products/pj-031dh/cui-devices?region=nac
footprint PJ031DH
pins: 1, 2, 3

## PRT-16763
designator J?
Connector; Manufacturer_Name: SparkFun; Manufacturer_Part_Number: PRT-16763; Datasheet Link: https://cdn.sparkfun.com/assets/0/b/8/5/2/DS-16763-2_X_20_Pin_Extended_GPIO_Header_-_Female_-_16mm_7.30mm.pdf; Height: 16.25mm; Mouser Part Number: 474-PRT-16763; Mouser Price/Stock: https://www.mouser.co.uk/ProductDetail/SparkFun/PRT-16763?qs=W%2FMpXkg%252BdQ5xeCq%2FGKjnlQ%3D%3D; Arrow Part Number: PRT-16763; Arrow Price/Stock: https://www.arrow.com/en/products/prt-16763/sparkfun-electronics?region=nac
footprint RHDR40W64P254_2X20_5130X500X1625P
pins: 1, 2, 3, 4, 5, 6, 7, 8, 9, 10, 11, 12, 13, 14, 15, 16, 17, 18, 19, 20, 21, 22, 23, 24, 25, 26, 27, 28, 29, 30, 31, 32, 33, 34, 35, 36, 37, 38, 39, 40

## PS1240P02BT
designator LS?
Loudspeaker or Buzzer; Manufacturer_Name: TDK; Manufacturer_Part_Number: PS1240P02BT; Datasheet Link: https://product.tdk.com/system/files/dam/doc/product/sw_piezo/sw_piezo/piezo-buzzer/catalog/piezoelectronic_buzzer_ps_en.pdf; Mouser Part Number: 810-PS1240P02BT; Mouser Price/Stock: https://www.mouser.co.uk/ProductDetail/TDK/PS1240P02BT?qs=d7g9p1yFhWaZXSY9MjKMkw%3D%3D; Arrow Part Number: PS1240P02BT; Arrow Price/Stock: https://www.arrow.com/en/products/ps1240p02bt/tdk?region=nac
footprint PS1240P02BT
pins: 2, ?1

## PTS526_SK08_SMTR2_LFS
designator S?
Switch; Manufacturer_Name: C & K COMPONENTS; Manufacturer_Part_Number: PTS526 SK08 SMTR2 LFS; Datasheet Link: https://www.ckswitches.com/media/2780/pts526.pdf; Height: 1.6mm; Mouser Part Number: 611-PTS526SK08SMTR2L; Mouser Price/Stock: https://www.mouser.co.uk/ProductDetail/CK/PTS526-SK08-SMTR2-LFS?qs=UXgszm6BlbECw%2FyKtIWLXA%3D%3D; Arrow Part Number: PTS526 SK08 SMTR2 LFS; Arrow Price/Stock: https://www.arrow.com/en/products/pts526-sk08-smtr2-lfs/ck?region=nac
footprint PTS526SKG15SMTR2LFS
pins: 1 COM_1, 2 COM_2, 3 NO_1, 4 NO_2

## PTS636_SK25F_SMTR_LFS
designator S?
Switch; Manufacturer_Name: C & K COMPONENTS; Manufacturer_Part_Number: PTS636 SK25F SMTR LFS; Datasheet Link: https://www.mouser.com/datasheet/2/60/pts636-1550567.pdf; Height: 2.7mm; Mouser Part Number: 611-PTS636SK25FSMTRL; Mouser Price/Stock: https://www.mouser.co.uk/ProductDetail/CK/PTS636-SK25F-SMTR-LFS?qs=vLWxofP3U2zO9PvdsA2GhQ%3D%3D; Arrow Part Number: PTS636 SK25F SMTR LFS; Arrow Price/Stock: https://www.arrow.com/en/products/pts636-sk25f-smtr-lfs/ck?region=nac
footprint PTS636SK25FSMTRLFS
pins: 1 COM, 2 NO

## pushButton
designator S?
pins: 1, 2, 3, 4

## PV36W502C01B00
designator VR?
Variable Resistor; Manufacturer_Name: Bourns; Manufacturer_Part_Number: PV36W502C01B00; Datasheet Link: https://www.mouser.com/datasheet/2/54/pv36-907345.pdf; Height: 11.55mm; Mouser Part Number: 81-PV36W502C01B00; Mouser Price/Stock: https://www.mouser.co.uk/ProductDetail/Bourns/PV36W502C01B00?qs=BqPwLKJeIrffwfpi4cR%2Fyg%3D%3D; Arrow Part Number: PV36W502C01B00; Arrow Price/Stock: https://www.arrow.com/en/products/pv36w502c01b00/bourns?region=nac
footprint PV36W502C01B00
pins: 1, 2, 3

## rectifierBridge
designator D?
pins: 1 +, 2 AC_1, 3 AC_2, 4 -

## REF3450TIDBVR
designator IC?
Integrated Circuit; Manufacturer_Name: Texas Instruments; Manufacturer_Part_Number: REF3450TIDBVR; Datasheet Link: https://www.ti.com/lit/ds/symlink/ref3450.pdf?ts=1625451766832&ref_url=https%253A%252F%252Fwww.ti.com%252Fsitesearch%252Fdocs%252Funiversalsearch.tsp%253FlangPref%253Den-US%2526searchTerm%253DREF3450TIDBVR%2526nr%253D7; Height: 1.45mm; Mouser Part Number: 595-REF3450TIDBVR; Mouser Price/Stock: https://www.mouser.co.uk/ProductDetail/Texas-Instruments/REF3450TIDBVR?qs=QNEnbhJQKvaJ9wk9nNLvXA%3D%3D
footprint SOT95P280X145-6N
pins: 1 NC_1, 2 GND, 3 NC_2, 4 IN, 5 NC_3, 6 VOUT

## Resistor
designator R?
pins: 1 6, 2

## RMCF0603ZT0R00
designator R?
Resistor; Manufacturer_Name: Stackpole Electronics; Manufacturer_Part_Number: RMCF0603ZT0R00; Datasheet Link: https://www.seielect.com/Catalog/SEI-RMCF_RMCP.pdf; Height: 0.55mm; Mouser Part Number: 708-RMCF0603ZT0R00; Mouser Price/Stock: https://www.mouser.co.uk/ProductDetail/SEI-Stackpole/RMCF0603ZT0R00?qs=FESYatJ8odLJgZb1WGmvgw%3D%3D; Arrow Part Number: RMCF0603ZT0R00; Arrow Price/Stock: https://www.arrow.com/en/products/rmcf0603zt0r00/stackpole-electronics?region=nac
footprint RESC1608X55N
pins: 1, 2

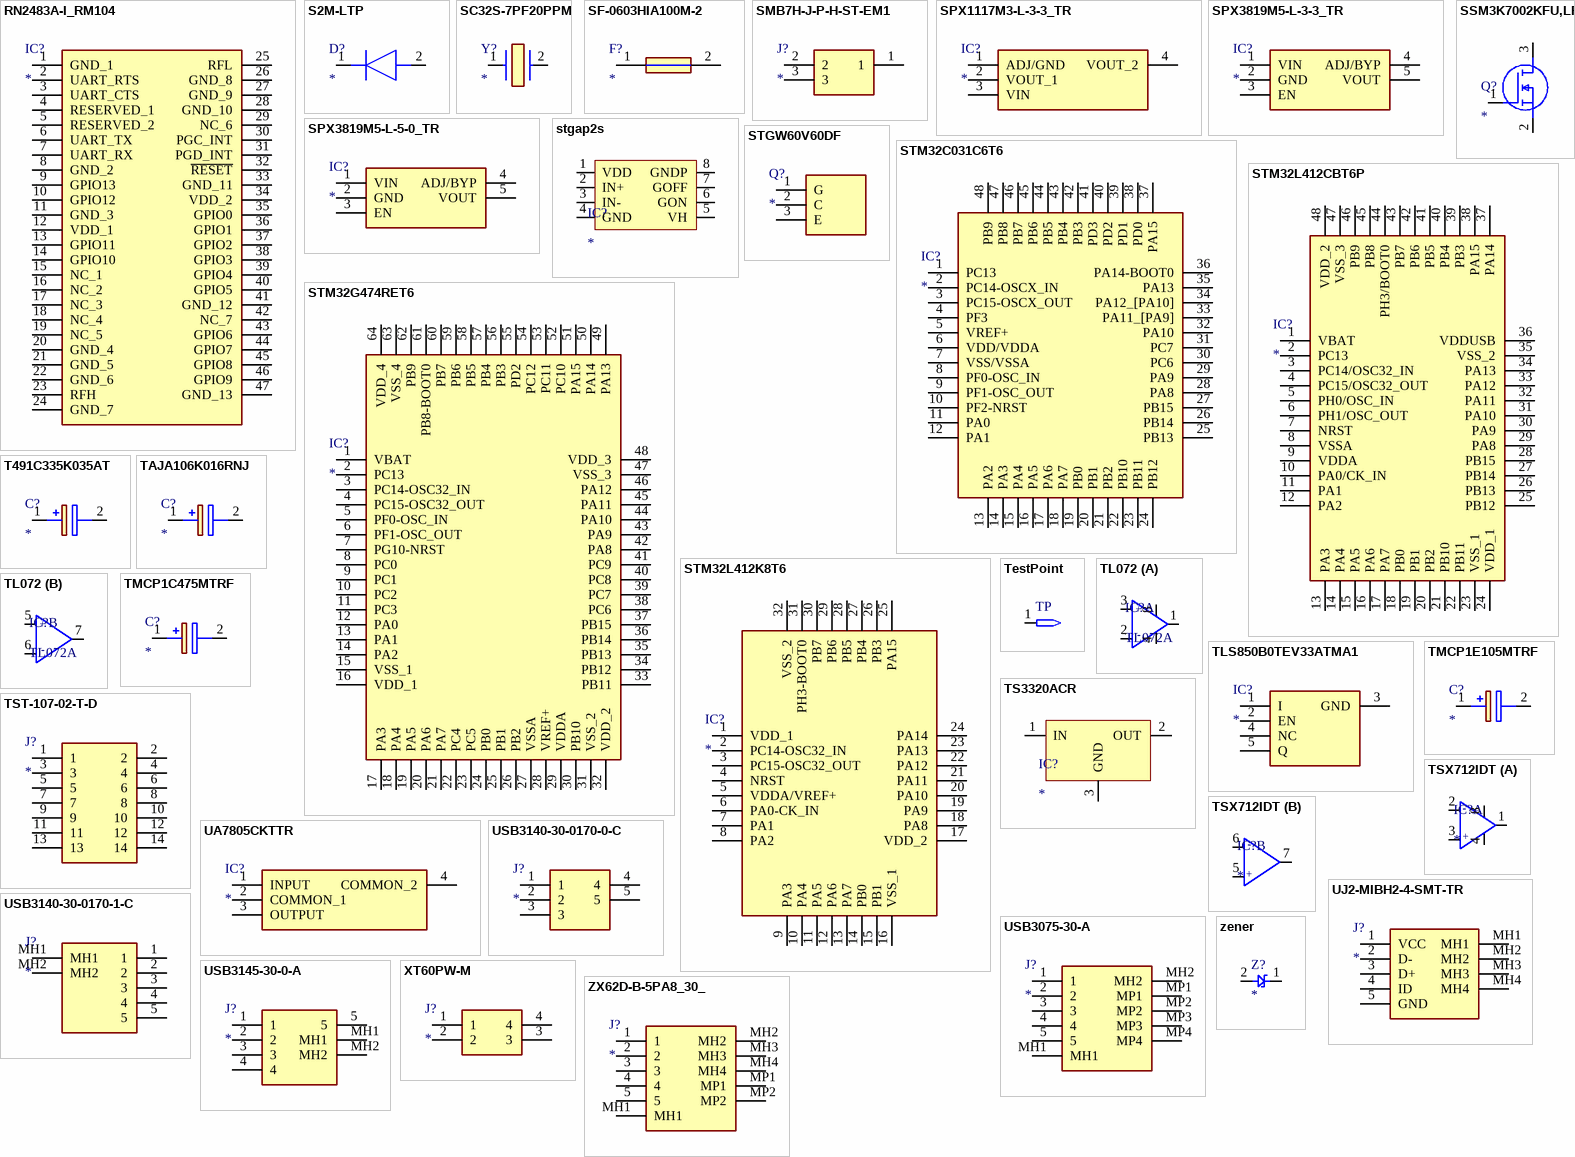
[diagram p2: symbols RN2483A-I_RM104 to ZX62D-B-5PA8_30_]

## RN2483A-I_RM104
designator IC?
Integrated Circuit; Manufacturer_Name: Microchip; Manufacturer_Part_Number: RN2483A-I/RM104; Datasheet Link: https://www.arrow.com/en/products/rn2483a-irm104/microchip-technology; Height: 3.34mm; Mouser Part Number: 579-RN2483A-I/RM104; Mouser Price/Stock: https://www.mouser.co.uk/ProductDetail/Microchip-Technology/RN2483A-I-RM104?qs=F5EMLAvA7ICI%2FFS0wekTjA%3D%3D; Arrow Part Number: RN2483A-I/RM104; Arrow Price/Stock: https://www.arrow.com/en/products/rn2483a-irm104/microchip-technology?region=nac
footprint RN2483AIRM104
pins: 1 GND_1, 2 UART_RTS, 3 UART_CTS, 4 RESERVED_1, 5 RESERVED_2, 6 UART_TX, 7 UART_RX, 8 GND_2, 9 GPIO13, 10 GPIO12, 11 GND_3, 12 VDD_1, 13 GPIO11, 14 GPIO10, 15 NC_1, 16 NC_2, 17 NC_3, 18 NC_4, 19 NC_5, 20 GND_4, 21 GND_5, 22 GND_6, 23 RFH, 24 GND_7, 25 RFL, 26 GND_8, 27 GND_9, 28 GND_10, 29 NC_6, 30 PGC_INT, 31 PGD_INT, 32 ~{RESET}, 33 GND_11, 34 VDD_2, 35 GPIO0, 36 GPIO1, 37 GPIO2, 38 GPIO3, 39 GPIO4, 40 GPIO5, 41 GND_12, 42 NC_7, 43 GPIO6, 44 GPIO7, 45 GPIO8, 46 GPIO9, 47 GND_13

## S2M-LTP
designator D?
Diode; Manufacturer_Name: MCC; Manufacturer_Part_Number: S2M-LTP; Datasheet Link: https://www.mccsemi.com/pdf/Products/S2A-L-S2M-L(SMB).pdf; Height: 2.62mm; Mouser Part Number: 833-S2M-LTP; Mouser Price/Stock: https://www.mouser.co.uk/ProductDetail/Micro-Commercial-Components-MCC/S2M-LTP?qs=cLwp4wpikzBFXVCN0mKj5w%3D%3D; Arrow Part Number: S2M-LTP; Arrow Price/Stock: https://www.arrow.com/en/products/s2m-ltp/micro-commercial-components?region=europe
footprint DIOM5336X262N
pins: 1 K, 2 A

## SC32S-7PF20PPM
designator Y?
Crystal or Oscillator; Manufacturer_Name: Seiko Semiconductors; Manufacturer_Part_Number: SC32S-7PF20PPM; Datasheet Link: https://www.mouser.com/datasheet/2/360/file_PRODUCT_MASTER_50812_GRAPHIC03-542305.pdf; Mouser Part Number: 628-SC32S-7PF20PPM; Mouser Price/Stock: https://www.mouser.co.uk/ProductDetail/Seiko-Semiconductors/SC32S-7PF20PPM?qs=3CPZD7qAgigZSR1ASVAS6w%3D%3D
footprint SC32S7PF20PPM
pins: 1, 2

## SF-0603HIA100M-2
designator F?
Fuse; Manufacturer_Name: Bourns; Manufacturer_Part_Number: SF-0603HIA100M-2; Datasheet Link: https://www.bourns.com/docs/product-datasheets/sf-0603hia-m.pdf; Height: 0.95mm; Mouser Part Number: 652-SF-0603HIA100M-2; Mouser Price/Stock: https://www.mouser.co.uk/ProductDetail/Bourns/SF-0603HIA100M-2?qs=GBLSl2Akirsum4%2FU%2Fa1DBw%3D%3D; Arrow Part Number: SF-0603HIA100M-2; Arrow Price/Stock: https://www.arrow.com/en/products/sf-0603hia100m-2/bourns?region=nac
footprint FUSC1608X95N
pins: 1, 2

## SMB7H-J-P-H-ST-EM1
designator J?
Connector; Manufacturer_Name: SAMTEC; Manufacturer_Part_Number: SMB7H-J-P-H-ST-EM1; Datasheet Link: https://suddendocs.samtec.com/prints/smb7h-j-p-x-st-em1-mkt.pdf?_gl=1*z2crc*_ga*OTc5MzE2NTc4LjE2NTkzNDM2MTY.*_ga_3KFNZC07WW*MTY4MDMzMDI3OC40Mi4xLjE2ODAzMzA4OTcuMzAuMC4w; Height: 6.48mm; Mouser Part Number: 200-SMB7HJPHSTEM1; Mouser Price/Stock: https://www.mouser.co.uk/ProductDetail/Samtec/SMB7H-J-P-H-ST-EM1?qs=92ilVni64gxoV1tiDxVRtw%3D%3D; Arrow Part Number: SMB7H-J-P-H-ST-EM1; Arrow Price/Stock: https://www.arrow.com/en/products/smb7h-j-p-h-st-em1/samtec
footprint SMB7HJPHSTEM1
pins: 1, 2, 3

## SPX1117M3-L-3-3_TR
designator IC?
Integrated Circuit; Manufacturer_Name: EXAR; Manufacturer_Part_Number: SPX1117M3-L-3-3/TR; Datasheet Link: https://componentsearchengine.com/Datasheets/2/SPX1117M3-L-3-3_TR.pdf; Height: 1.8mm; Mouser Part Number: 701-SPX1117M3-L-33TR; Mouser Price/Stock: https://www.mouser.com/Search/Refine.aspx?Keyword=701-SPX1117M3-L-33TR; Arrow Part Number: SPX1117M3-L-3-3/TR; Arrow Price/Stock: https://www.arrow.com/en/products/spx1117m3-l-3-3tr/exar
footprint SOT230P700X180-4N
pins: 1 ADJ/GND, 2 VOUT_1, 3 VIN, 4 VOUT_2

## SPX3819M5-L-3-3_TR
designator IC?
Integrated Circuit; Manufacturer_Name: EXAR; Manufacturer_Part_Number: SPX3819M5-L-3-3/TR; Datasheet Link: https://www.exar.com/ds/spx3819.pdf; Height: 1.45mm; Mouser Part Number: 701-SPX3819M5-L-33TR; Mouser Price/Stock: https://www.mouser.com/Search/Refine.aspx?Keyword=701-SPX3819M5-L-33TR; Arrow Part Number: SPX3819M5-L-3-3/TR; Arrow Price/Stock: https://www.arrow.com/en/products/spx3819m5-l-3-3tr/exar
footprint SOT95P280X145-5N
pins: 1 VIN, 2 GND, 3 EN, 4 ADJ/BYP, 5 VOUT

## SPX3819M5-L-5-0_TR
designator IC?
Integrated Circuit; Manufacturer_Name: EXAR; Manufacturer_Part_Number: SPX3819M5-L-5-0/TR; Datasheet Link: https://www.exar.com/ds/spx3819.pdf; Height: 1.45mm; Mouser Part Number: 701-SPX3819M5-L-50TR; Mouser Price/Stock: https://www.mouser.com/Search/Refine.aspx?Keyword=701-SPX3819M5-L-50TR; Arrow Part Number: SPX3819M5-L-5-0/TR; Arrow Price/Stock: https://www.arrow.com/en/products/spx3819m5-l-5-0tr/exar
footprint SOT95P280X145-5N
pins: 1 VIN, 2 GND, 3 EN, 4 ADJ/BYP, 5 VOUT

## SSM3K7002KFU,LF
designator Q?
MOSFET (N-Channel); Manufacturer_Name: Toshiba; Manufacturer_Part_Number: SSM3K7002KFU,LF; Datasheet Link: http://toshiba.semicon-storage.com/info/docget.jsp?did=35715&prodName=SSM3K7002KFU; Mouser Part Number: 757-SSM3K7002KFULF; Mouser Price/Stock: https://www.mouser.co.uk/ProductDetail/Toshiba/SSM3K7002KFULF?qs=4XYteRzLj25k%2Fstii15gpQ%3D%3D; Arrow Part Number: SSM3K7002KFU,LF; Arrow Price/Stock: https://www.arrow.com/en/products/ssm3k7002kfulf/toshiba?region=nac
footprint SSM3K7002CFULF
pins: 1 G, 2 S, 3 D

## stgap2s
designator IC?
pins: 1 VDD, 2 IN+, 3 IN-, 4 GND, 5 VH, 6 GON, 7 GOFF, 8 GNDP

## STGW60V60DF
designator Q?
Transistor; Manufacturer_Name: STMicroelectronics; Manufacturer_Part_Number: STGW60V60DF; Datasheet Link: http://www.st.com/web/en/resource/technical/document/datasheet/DM00074810.pdf; Height: 5.15mm; Mouser Part Number: 511-STGW60V60DF; Mouser Price/Stock: https://www.mouser.co.uk/ProductDetail/STMicroelectronics/STGW60V60DF?qs=DqCdCwOw4%2F7JQaHzXGyZdA%3D%3D; Arrow Part Number: STGW60V60DF; Arrow Price/Stock: https://www.arrow.com/en/products/stgw60v60df/stmicroelectronics
footprint TO545P515X1560X2445-3P
pins: 1 G, 2 C, 3 E

## STM32C031C6T6
designator IC?
Integrated Circuit; Manufacturer_Name: STMicroelectronics; Manufacturer_Part_Number: STM32C031C6T6; Datasheet Link: https://www.st.com/resource/en/datasheet/stm32c031c4.pdf; Height: 1.6mm; Mouser Part Number: 511-STM32C031C6T6; Mouser Price/Stock: https://www.mouser.co.uk/ProductDetail/STMicroelectronics/STM32C031C6T6?qs=IPgv5n7u5QaFf%252Bs1On9ncw%3D%3D; Arrow Part Number: STM32C031C6T6; Arrow Price/Stock: https://www.arrow.com/en/products/stm32c031c6t6/stmicroelectronics?region=nac
footprint QFP50P900X900X160-48N
pins: 1 PC13, 2 PC14-OSCX_IN, 3 PC15-OSCX_OUT, 4 PF3, 5 VREF+, 6 VDD/VDDA, 7 VSS/VSSA, 8 PF0-OSC_IN, 9 PF1-OSC_OUT, 10 PF2-NRST, 11 PA0, 12 PA1, 13 PA2, 14 PA3, 15 PA4, 16 PA5, 17 PA6, 18 PA7, 19 PB0, 20 PB1, 21 PB2, 22 PB10, 23 PB11, 24 PB12, 25 PB13, 26 PB14, 27 PB15, 28 PA8, 29 PA9, 30 PC6, 31 PC7, 32 PA10, 33 PA11_[PA9], 34 PA12_[PA10], 35 PA13, 36 PA14-BOOT0, 37 PA15, 38 PD0, 39 PD1, 40 PD2, 41 PD3, 42 PB3, 43 PB4, 44 PB5, 45 PB6, 46 PB7, 47 PB8, 48 PB9

## STM32G474RET6
designator IC?
Integrated Circuit; Manufacturer_Name: STMicroelectronics; Manufacturer_Part_Number: STM32G474RET6; Datasheet Link: https://www.st.com/resource/en/datasheet/stm32g474re.pdf; Height: 1.6mm; Mouser Part Number: 511-STM32G474RET6; Mouser Price/Stock: https://www.mouser.co.uk/ProductDetail/STMicroelectronics/STM32G474RET6?qs=PzGy0jfpSMvUBs7PMTDqlg%3D%3D; Arrow Part Number: STM32G474RET6; Arrow Price/Stock: https://www.arrow.com/en/products/stm32g474ret6/stmicroelectronics?region=nac
footprint QFP50P1200X1200X160-64N
pins: 1 VBAT, 2 PC13, 3 PC14-OSC32_IN, 4 PC15-OSC32_OUT, 5 PF0-OSC_IN, 6 PF1-OSC_OUT, 7 PG10-NRST, 8 PC0, 9 PC1, 10 PC2, 11 PC3, 12 PA0, 13 PA1, 14 PA2, 15 VSS_1, 16 VDD_1, 17 PA3, 18 PA4, 19 PA5, 20 PA6, 21 PA7, 22 PC4, 23 PC5, 24 PB0, 25 PB1, 26 PB2, 27 VSSA, 28 VREF+, 29 VDDA, 30 PB10, 31 VSS_2, 32 VDD_2, 33 PB11, 34 PB12, 35 PB13, 36 PB14, 37 PB15, 38 PC6, 39 PC7, 40 PC8, 41 PC9, 42 PA8, 43 PA9, 44 PA10, 45 PA11, 46 PA12, 47 VSS_3, 48 VDD_3, 49 PA13, 50 PA14, 51 PA15, 52 PC10, 53 PC11, 54 PC12, 55 PD2, 56 PB3, 57 PB4, 58 PB5, 59 PB6, 60 PB7, 61 PB8-BOOT0, 62 PB9, 63 VSS_4, 64 VDD_4

## STM32L412CBT6P
designator IC?
Integrated Circuit; Manufacturer_Name: STMicroelectronics; Manufacturer_Part_Number: STM32L412CBT6P; Datasheet Link: https://www.mouser.de/datasheet/2/389/stm32l412c8-1851177.pdf; Height: 1.6mm; Mouser Part Number: 511-STM32L412CBT6P; Mouser Price/Stock: https://www.mouser.co.uk/ProductDetail/STMicroelectronics/STM32L412CBT6P?qs=l7cgNqFNU1g4z4SwDtDorw%3D%3D; Arrow Part Number: STM32L412CBT6P; Arrow Price/Stock: https://www.arrow.com/en/products/stm32l412cbt6p/stmicroelectronics?region=nac
footprint QFP50P900X900X160-48N
pins: 1 VBAT, 2 PC13, 3 PC14/OSC32_IN, 4 PC15/OSC32_OUT, 5 PH0/OSC_IN, 6 PH1/OSC_OUT, 7 NRST, 8 VSSA, 9 VDDA, 10 PA0/CK_IN, 11 PA1, 12 PA2, 13 PA3, 14 PA4, 15 PA5, 16 PA6, 17 PA7, 18 PB0, 19 PB1, 20 PB2, 21 PB10, 22 PB11, 23 VSS_1, 24 VDD_1, 25 PB12, 26 PB13, 27 PB14, 28 PB15, 29 PA8, 30 PA9, 31 PA10, 32 PA11, 33 PA12, 34 PA13, 35 VSS_2, 36 VDDUSB, 37 PA14, 38 PA15, 39 PB3, 40 PB4, 41 PB5, 42 PB6, 43 PB7, 44 PH3/BOOT0, 45 PB8, 46 PB9, 47 VSS_3, 48 VDD_2

## STM32L412K8T6
designator IC?
Integrated Circuit; Manufacturer_Name: STMicroelectronics; Manufacturer_Part_Number: STM32L412K8T6; Datasheet Link: https://www.mouser.com/datasheet/2/389/stm32l412c8-1505426.pdf; Height: 1.6mm; Mouser Part Number: 511-STM32L412K8T6; Mouser Price/Stock: https://www.mouser.co.uk/ProductDetail/STMicroelectronics/STM32L412K8T6?qs=l7cgNqFNU1gVMdP83FyqDw%3D%3D; Arrow Part Number: STM32L412K8T6; Arrow Price/Stock: https://www.arrow.com/en/products/stm32l412k8t6/stmicroelectronics?region=nac
footprint QFP80P900X900X160-32N
pins: 1 VDD_1, 2 PC14-OSC32_IN, 3 PC15-OSC32_OUT, 4 NRST, 5 VDDA/VREF+, 6 PA0-CK_IN, 7 PA1, 8 PA2, 9 PA3, 10 PA4, 11 PA5, 12 PA6, 13 PA7, 14 PB0, 15 PB1, 16 VSS_1, 17 VDD_2, 18 PA8, 19 PA9, 20 PA10, 21 PA11, 22 PA12, 23 PA13, 24 PA14, 25 PA15, 26 PB3, 27 PB4, 28 PB5, 29 PB6, 30 PB7, 31 PH3-BOOT0, 32 VSS_2

## T491C335K035AT
designator C?
Capacitor Polarised; Manufacturer_Name: KEMET; Manufacturer_Part_Number: T491C335K035AT; Datasheet Link: https://content.kemet.com/datasheets/KEM_T2005_T491.pdf; Height: 2.8mm; Mouser Part Number: 80-T491C335K035; Mouser Price/Stock: https://www.mouser.co.uk/ProductDetail/KEMET/T491C335K035AT?qs=qfhfvpM3tghah%2FdvWnQejA%3D%3D; Arrow Part Number: T491C335K035AT; Arrow Price/Stock: https://www.arrow.com/en/products/t491c335k035at/kemet-corporation
footprint T491C
pins: 1 +, 2 -

## TAJA106K016RNJ
designator C?
Capacitor Polarised; Manufacturer_Name: AVX; Manufacturer_Part_Number: TAJA106K016RNJ; Datasheet Link: http://www.farnell.com/datasheets/1680476.pdf; Height: 1.8mm; Mouser Part Number: 581-TAJA106K016R; Mouser Price/Stock: https://www.mouser.co.uk/ProductDetail/AVX/TAJA106K016RNJ?qs=OVpPYgiJXXV05Cvf2fCYWQ%3D%3D; Arrow Part Number: TAJA106K016RNJ; Arrow Price/Stock: https://www.arrow.com/en/products/taja106k016rnj/avx
footprint CAPPM3216X180N
pins: 1 +, 2 -

## TestPoint
designator TP
footprint TestPoint
pins: 1

## TL072
designator IC?, comment TL072A  (no BOM)
part A pins: 1, 2, 3, 4, 8
part B pins: 5, 6, 7
part A text: +; -
part B text: +; -

## TLS850B0TEV33ATMA1
designator IC?
Integrated Circuit; Manufacturer_Name: Infineon; Manufacturer_Part_Number: TLS850B0TEV33ATMA1; Datasheet Link: https://componentsearchengine.com/Datasheets/1/TLS850B0TEV33ATMA1.pdf; Height: 2mm; Mouser Part Number: 726-TLS850B0TEV33ATM; Mouser Price/Stock: https://www.mouser.co.uk/ProductDetail/Infineon-Technologies/TLS850B0TEV33ATMA1?qs=W0yvOO0ixfGvA2FkIMPoCw%3D%3D; Arrow Part Number: TLS850B0TEV33ATMA1; Arrow Price/Stock: https://www.arrow.com/en/products/tls850b0tev33atma1/infineon-technologies-ag?region=nac
footprint BTS6143D
pins: 1 I, 2 EN, 3 GND, 4 NC, 5 Q

## TMCP1C475MTRF
designator C?
Capacitor Polarised; Manufacturer_Name: Vishay; Manufacturer_Part_Number: TMCP1C475MTRF; Datasheet Link: https://www.vishay.com/docs/40179/tmcp.pdf; Height: 1.2mm; Mouser Part Number: 74-TMCP1C475MTRF; Mouser Price/Stock: https://www.mouser.co.uk/ProductDetail/Vishay-Sprague/TMCP1C475MTRF?qs=WatphXlIDnwuOG0lcb7DdQ%3D%3D; Arrow Part Number: TMCP1C475MTRF; Arrow Price/Stock: https://www.arrow.com/en/products/tmcp1c475mtrf/vishay?region=europe
footprint CAPPM2012X120N
pins: 1 +, 2 -

## TMCP1E105MTRF
designator C?
Capacitor Polarised; Manufacturer_Name: Vishay; Manufacturer_Part_Number: TMCP1E105MTRF; Datasheet Link: https://www.vishay.com/docs/40179/tmcp.pdf; Height: 1.2mm; Mouser Part Number: 74-TMCP1E105MTRF; Mouser Price/Stock: https://www.mouser.co.uk/ProductDetail/Vishay-Sprague/TMCP1E105MTRF?qs=WatphXlIDnyf%252BUi0sJ1OZA%3D%3D
footprint TMCP1E105MTRF
pins: 1 +, 2 -

## TS3320ACR
designator IC?
pins: 1 IN, 2 OUT, 3 GND

## TST-107-02-T-D
designator J?
Connector; Manufacturer_Name: SAMTEC; Manufacturer_Part_Number: TST-107-02-T-D; Datasheet Link: http://suddendocs.samtec.com/prints/tst-1xx-xx-x-x-xx-xx-mkt.pdf; Mouser Part Number: 200-TST10702TD; Mouser Price/Stock: https://www.mouser.co.uk/ProductDetail/Samtec/TST-107-02-T-D?qs=rU5fayqh%252BE1whVT4JAxXoQ%3D%3D; Arrow Part Number: TST-107-02-T-D; Arrow Price/Stock: https://www.arrow.com/en/products/tst-107-02-t-d/samtec
footprint TST-107-XX-Y-D
pins: 1, 2, 3, 4, 5, 6, 7, 8, 9, 10, 11, 12, 13, 14

## TSX712IDT
designator IC?
part A pins: 1, 2, 3, 4, 8
part B pins: 5, 6, 7
part A text: -; +
part B text: -; +

## UA7805CKTTR
designator IC?
Integrated Circuit; Manufacturer_Name: Texas Instruments; Manufacturer_Part_Number: UA7805CKTTR; Datasheet Link: http://www.ti.com/lit/gpn/ua78; Mouser Part Number: 595-UA7805CKTTR; Mouser Price/Stock: https://www.mouser.co.uk/ProductDetail/Texas-Instruments/UA7805CKTTR?qs=7kv20MEVUlhP02TffSMMvg%3D%3D; Arrow Part Number: UA7805CKTTR; Arrow Price/Stock: https://www.arrow.com/en/products/ua7805ckttr/texas-instruments?region=nac
footprint KTT-(R-PSFM-G3)
pins: 1 INPUT, 2 COMMON_1, 3 OUTPUT, 4 COMMON_2

## UJ2-MIBH2-4-SMT-TR
designator J?
Connector; Manufacturer_Name: CUI Devices; Manufacturer_Part_Number: UJ2-MIBH2-4-SMT-TR; Datasheet Link: https://www.cui.com/product/resource/digikeypdf/uj2-mibh2-4-smt.pdf; Height: 2.5mm; Mouser Part Number: 490-UJ2-MIBH2-4-SMT; Mouser Price/Stock: https://www.mouser.co.uk/ProductDetail/CUI-Devices/UJ2-MIBH2-4-SMT-TR?qs=5mqXD9RfOg1yxHIpPvPxvQ%3D%3D; Arrow Part Number: UJ2-MIBH2-4-SMT-TR; Arrow Price/Stock: https://www.arrow.com/en/products/uj2-mibh2-4-smt-tr/cui-devices?region=nac
footprint UJ2MIBH24SMTTR
pins: 1 VCC, 2 D-, 3 D+, 4 ID, 5 GND, MH1, MH2, MH3, MH4

## USB3075-30-A
designator J?
Connector; Manufacturer_Name: GCT (GLOBAL CONNECTOR TECHNOLOGY); Manufacturer_Part_Number: USB3075-30-A; Datasheet Link: https://componentsearchengine.com/Datasheets/2/USB3075-30-A.pdf; Height: 2.7mm; Mouser Part Number: 640-USB3075-30-A; Mouser Price/Stock: https://www.mouser.co.uk/ProductDetail/GCT/USB3075-30-A?qs=KUoIvG%2F9IlbGMJplbp1ybA%3D%3D
footprint USB307530A
pins: 1, 2, 3, 4, 5, MH1, MH2, MP1, MP2, MP3, MP4

## USB3140-30-0170-0-C
designator J?
Connector; Manufacturer_Name: GCT (GLOBAL CONNECTOR TECHNOLOGY); Manufacturer_Part_Number: USB3140-30-0170-0-C; Datasheet Link: https://gct.co/files/drawings/usb3140.pdf; Height: 6.7mm; Mouser Part Number: 640-USB31403001700C; Mouser Price/Stock: https://www.mouser.co.uk/ProductDetail/GCT/USB3140-30-0170-0-C?qs=KUoIvG%2F9IlYQ5y%252BQm2TPIg%3D%3D
footprint USB31403001700C
pins: 1, 2, 3, 4, 5

## USB3140-30-0170-1-C
designator J?
Connector; Manufacturer_Name: GCT (GLOBAL CONNECTOR TECHNOLOGY); Manufacturer_Part_Number: USB3140-30-0170-1-C; Datasheet Link: https://gct.co/files/drawings/usb3140.pdf; Height: 6.5mm; Mouser Part Number: 640-USB31403001701C; Mouser Price/Stock: https://www.mouser.co.uk/ProductDetail/GCT/USB3140-30-0170-1-C?qs=KUoIvG%2F9IlbQBYYBUHcIzQ%3D%3D
footprint USB31403001701C
pins: 1, 2, 3, 4, 5, MH1, MH2

## USB3145-30-0-A
designator J?
Connector; Manufacturer_Name: GCT (GLOBAL CONNECTOR TECHNOLOGY); Manufacturer_Part_Number: USB3145-30-0-A; Datasheet Link: https://gct.co/files/drawings/usb3145.pdf; Height: 6.7mm; Mouser Part Number: 640-USB3145-30-0-A; Mouser Price/Stock: https://www.mouser.co.uk/ProductDetail/GCT/USB3145-30-0-A?qs=KUoIvG%2F9IlZmxMjRGToqnA%3D%3D
footprint USB3145300A
pins: 1, 2, 3, 4, 5, MH1, MH2

## XT60PW-M
designator J?
Connector; Manufacturer_Name: Changzou Amass Elec; Manufacturer_Part_Number: XT60PW-M; Datasheet Link: https://www.tme.eu/Document/9b8d0c5eb7094295f3d3112c214d3ade/XT60PW%20SPEC.pdf; Height: 8.4mm
footprint XT60PWM
pins: 1, 2, 3, 4

## zener
designator Z?
pins: 1 2, 2 3

## ZX62D-B-5PA8_30_
designator J?
Connector; Manufacturer_Name: Hirose; Manufacturer_Part_Number: ZX62D-B-5PA8(30); Datasheet Link: https://www.hirose.com/en/product/document?clcode=CL0242-0056-3-30&productname=ZX62D-B-5PA8(30)&series=ZX&documenttype=2DDrawing&lang=en&documentid=0001147958; Height: 3mm; Mouser Part Number: 798-ZX62D-B-5PA830; Mouser Price/Stock: https://www.mouser.co.uk/ProductDetail/Hirose-Connector/ZX62D-B-5PA830?qs=1Nn7v2rJFSJs6IftS%252BmZAw%3D%3D; Arrow Part Number: ZX62D-B-5PA8(30); Arrow Price/Stock: https://www.arrow.com/en/products/zx62d-b-5pa8-30/hirose-electric?region=nac
footprint ZX62DB5PA830
pins: 1, 2, 3, 4, 5, MH1, MH2, MH3, MH4, MP1, MP2